# Altium schematic symbol library licheepi_nano_pcb.SchLib: 29 symbols
Pins are listed as number, name and electrical type; pins without a type are passive.

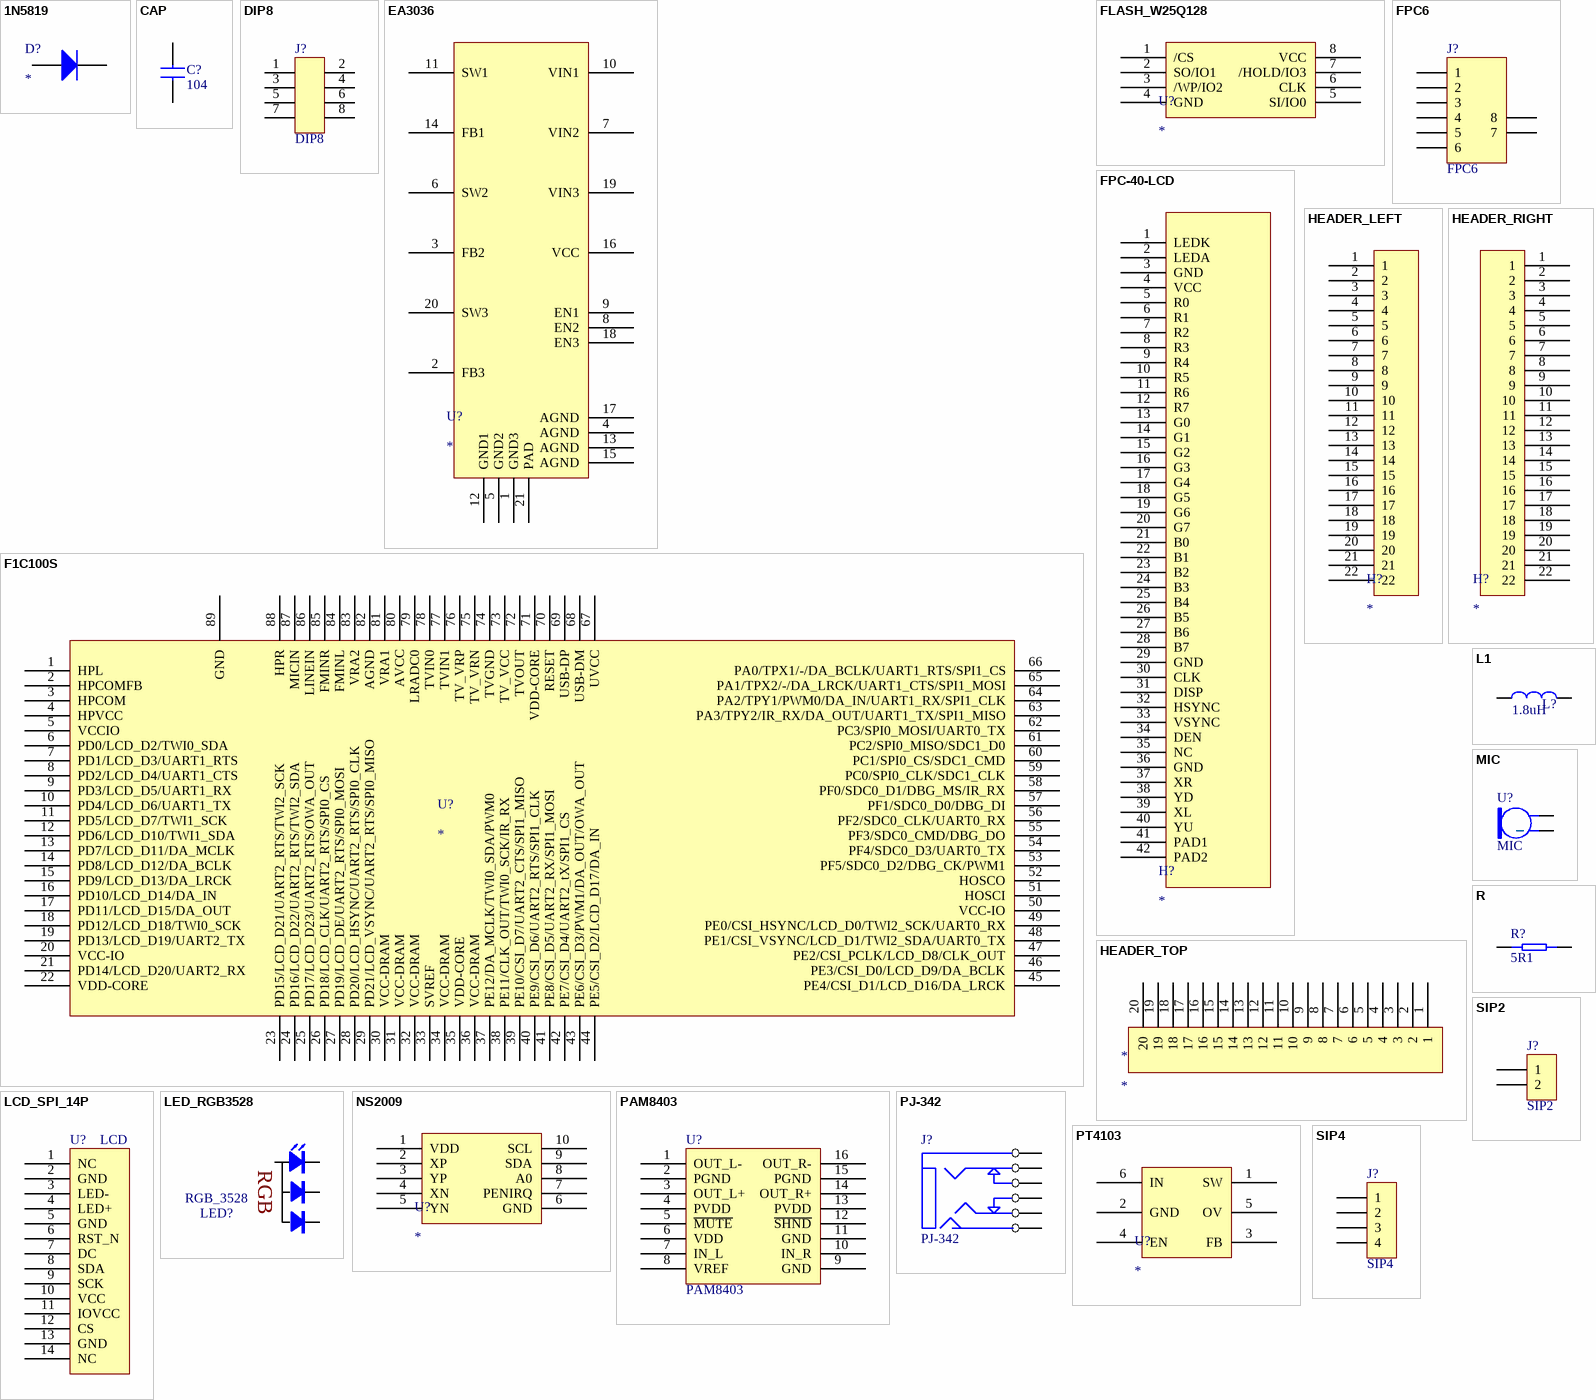
[diagram p0: symbols 1N5819 to SIP4]

## 1N5819
designator D?
footprint SOD123
pins: 1 A, 2 K

## CAP
designator C?, comment 104
SMD-CAP
footprint 0603C
footprint 0805C
footprint 1206C
footprint C_CCB
footprint 0402C
pins: 1, 2

## DIP8
designator J?
Connectors; Set Position: 0.5; Published: 8-Jun-2000; LatestRevisionDate: 17-Jul-2002; LatestRevisionNote: Re-released for DXP Platform.; PackageReference: AXIAL-0.6; Publisher: Altium Limited
footprint DIP8-2.54 (Footprint not found)
footprint NRF24L01
footprint DIP8-2.54_SMT
pins: 1, 2, 3, 4, 5, 6, 7, 8

## EA3036
designator U?
footprint QFN20-3x3 (QFN, 20-Leads, Body 3.00x3.00mm, Pitch 0.40mm)
pins: 1 GND3, 2 FB3, 3 FB2, 4 AGND, 5 GND2, 6 SW2, 7 VIN2, 8 EN2, 9 EN1, 10 VIN1, 11 SW1, 12 GND1, 13 AGND, 14 FB1, 15 AGND, 16 VCC, 17 AGND, 18 EN3, 19 VIN3, 20 SW3, 21 PAD

## F1C100S
designator U?
footprint QFN88-0.4
pins: 1 HPL, 2 HPCOMFB, 3 HPCOM, 4 HPVCC, 5 VCCIO, 6 PD0/LCD_D2/TWI0_SDA, 7 PD1/LCD_D3/UART1_RTS, 8 PD2/LCD_D4/UART1_CTS, 9 PD3/LCD_D5/UART1_RX, 10 PD4/LCD_D6/UART1_TX, 11 PD5/LCD_D7/TWI1_SCK, 12 PD6/LCD_D10/TWI1_SDA, 13 PD7/LCD_D11/DA_MCLK, 14 PD8/LCD_D12/DA_BCLK, 15 PD9/LCD_D13/DA_LRCK, 16 PD10/LCD_D14/DA_IN, 17 PD11/LCD_D15/DA_OUT, 18 PD12/LCD_D18/TWI0_SCK, 19 PD13/LCD_D19/UART2_TX, 20 VCC-IO, 21 PD14/LCD_D20/UART2_RX, 22 VDD-CORE, 23 PD15/LCD_D21/UART2_RTS/TWI2_SCK, 24 PD16/LCD_D22/UART2_RTS/TWI2_SDA, 25 PD17/LCD_D23/UART2_RTS/OWA_OUT, 26 PD18/LCD_CLK/UART2_RTS/SPI0_CS, 27 PD19/LCD_DE/UART2_RTS/SPI0_MOSI, 28 PD20/LCD_HSYNC/UART2_RTS/SPI0_CLK, 29 PD21/LCD_VSYNC/UART2_RTS/SPI0_MISO, 30 VCC-DRAM, 31 VCC-DRAM, 32 VCC-DRAM, 33 SVREF, 34 VCC-DRAM, 35 VDD-CORE, 36 VCC-DRAM, 37 PE12/DA_MCLK/TWI0_SDA/PWM0, 38 PE11/CLK_OUT/TWI0_SCK/IR_RX, 39 PE10/CSI_D7/UART2_CTS/SPI1_MISO, 40 PE9/CSI_D6/UART2_RTS/SPI1_CLK, 41 PE8/CSI_D5/UART2_RX/SPI1_MOSI, 42 PE7/CSI_D4/UART2_tX/SPI1_CS, 43 PE6/CSI_D3/PWM1/DA_OUT/OWA_OUT, 44 PE5/CSI_D2/LCD_D17/DA_IN, 45 PE4/CSI_D1/LCD_D16/DA_LRCK, 46 PE3/CSI_D0/LCD_D9/DA_BCLK, 47 PE2/CSI_PCLK/LCD_D8/CLK_OUT, 48 PE1/CSI_VSYNC/LCD_D1/TWI2_SDA/UART0_TX, 49 PE0/CSI_HSYNC/LCD_D0/TWI2_SCK/UART0_RX, 50 VCC-IO, 51 HOSCI, 52 HOSCO, 53 PF5/SDC0_D2/DBG_CK/PWM1, 54 PF4/SDC0_D3/UART0_TX, 55 PF3/SDC0_CMD/DBG_DO, 56 PF2/SDC0_CLK/UART0_RX, 57 PF1/SDC0_D0/DBG_DI, 58 PF0/SDC0_D1/DBG_MS/IR_RX, 59 PC0/SPI0_CLK/SDC1_CLK, 60 PC1/SPI0_CS/SDC1_CMD, 61 PC2/SPI0_MISO/SDC1_D0, 62 PC3/SPI0_MOSI/UART0_TX, 63 PA3/TPY2/IR_RX/DA_OUT/UART1_TX/SPI1_MISO, 64 PA2/TPY1/PWM0/DA_IN/UART1_RX/SPI1_CLK, 65 PA1/TPX2/-/DA_LRCK/UART1_CTS/SPI1_MOSI, 66 PA0/TPX1/-/DA_BCLK/UART1_RTS/SPI1_CS, 67 UVCC, 68 USB-DM, 69 USB-DP, 70 RESET, 71 VDD-CORE, 72 TVOUT, 73 TV_VCC, 74 TVGND, 75 TV_VRN, 76 TV_VRP, 77 TVIN1, 78 TVIN0, 79 LRADC0, 80 AVCC, 81 VRA1, 82 AGND, 83 VRA2, 84 FMINL, 85 FMINR, 86 LINEIN, 87 MICIN, 88 HPR, 89 GND

## FLASH_W25Q128
designator U?
footprint SO-8M
pins: 1 /CS, 2 SO/IO1, 3 /WP/IO2, 4 GND, 5 SI/IO0, 6 CLK, 7 /HOLD/IO3, 8 VCC

## FPC6
designator J?
footprint FPC-6P-0.5
pins: 1, 2, 3, 4, 5, 6, 7, 8

## FPC-40-LCD
designator H?
footprint FPC-40P-0.5
pins: 1 LEDK, 2 LEDA, 3 GND, 4 VCC, 5 R0, 6 R1, 7 R2, 8 R3, 9 R4, 10 R5, 11 R6, 12 R7, 13 G0, 14 G1, 15 G2, 16 G3, 17 G4, 18 G5, 19 G6, 20 G7, 21 B0, 22 B1, 23 B2, 24 B3, 25 B4, 26 B5, 27 B6, 28 B7, 29 GND, 30 CLK, 31 DISP, 32 HSYNC, 33 VSYNC, 34 DEN, 35 NC, 36 GND, 37 XR, 38 YD, 39 XL, 40 YU, 41 PAD1, 42 PAD2

## HEADER_LEFT
designator H?
footprint SIP22_10_1.27-mir
pins: 1, 2, 3, 4, 5, 6, 7, 8, 9, 10, 11, 12, 13, 14, 15, 16, 17, 18, 19, 20, 21, 22

## HEADER_RIGHT
designator H?
footprint SIP22_10_1.27
pins: 1, 2, 3, 4, 5, 6, 7, 8, 9, 10, 11, 12, 13, 14, 15, 16, 17, 18, 19, 20, 21, 22

## HEADER_TOP
designator *
footprint SIP20_1.27_half
pins: 1, 2, 3, 4, 5, 6, 7, 8, 9, 10, 11, 12, 13, 14, 15, 16, 17, 18, 19, 20

## L1
designator L?, comment 1.8uH
电感
footprint SLF10145
footprint SLF12565
footprint CD32
footprint CD43
footprint NR3015
footprint 0805R
footprint 0603R
pins: 1, 2

## LCD_SPI_14P
designator U?, comment LCD
footprint LCD_SPI_14P
footprint LCD_SPI_14P_top
footprint LCD_SPI_14P_sim
footprint LCD_SPI_14P_top_1.8
pins: 1 NC, 2 GND, 3 LED-, 4 LED+, 5 GND, 6 RST_N, 7 DC, 8 SDA, 9 SCK, 10 VCC, 11 IOVCC, 12 CS, 13 GND, 14 NC

## LED_RGB3528
designator LED?, comment RGB_3528
footprint LED_RGB3528
pins: 1 R, 2 COM+, 3 G, 4 B
text: RGB

## MIC
designator U?
footprint SIP2-2.54
footprint MIC_6050
footprint MIC_6027
pins: 1, 2

## NS2009
designator U?
footprint MSOP10 (TSSOP, 10-Leads, Body 3.00x3.00mm, Pitch 0.50mm, IPC Medium Density)
pins: 1 VDD, 2 XP, 3 YP, 4 XN, 5 YN, 6 GND, 7 PENIRQ, 8 A0, 9 SDA, 10 SCL

## PAM8403
designator U?
footprint SO-16N
pins: 1 OUT_L-, 2 PGND, 3 OUT_L+, 4 PVDD, 5 ~{MUTE}, 6 VDD, 7 IN_L, 8 VREF, 9 GND, 10 IN_R, 11 GND, 12 ~{SHND}, 13 PVDD, 14 OUT_R+, 15 PGND, 16 OUT_R-

## PJ-342
designator J?
footprint PJ-342
pins: 2 MIC, 3 GND, 4 R, 5 R_DET, 6 L, 7 L_DET

## PT4103
designator U?
footprint sot23_6
pins: 1 SW, 2 GND, 3 FB, 4 EN, 5 OV, 6 IN

## R
designator R?, comment 5R1
footprint 0805R
footprint R-AXIAL0.3
footprint R-AXIAL0.4
footprint 0402R
pins: 1, 2

## SIP2
designator J?
jointbar
footprint SIP2-2.0
footprint SIP2-2.54
pins: 1, 2

## SIP4
designator J?
jointbar
footprint SIP4-2.0
footprint SIP4-2.54
footprint SIP4-2.54-raw
pins: 1, 2, 3, 4

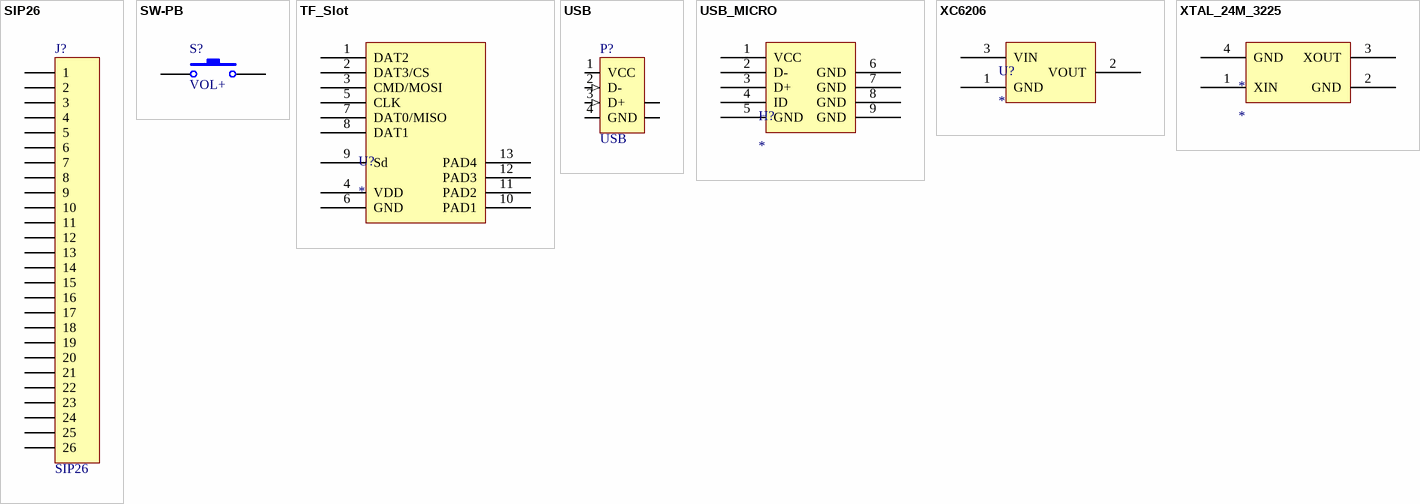
[diagram p1: symbols SIP26 to XTAL_24M_3225]

## SIP26
designator J?
footprint DIP26_2.54_SMT-DUAL
pins: 1, 2, 3, 4, 5, 6, 7, 8, 9, 10, 11, 12, 13, 14, 15, 16, 17, 18, 19, 20, 21, 22, 23, 24, 25, 26

## SW-PB
designator S?, comment VOL+
Switch; Published: 24-Mar-1999; LatestRevisionDate: 17-Jul-2002; LatestRevisionNote: Re-released for DXP Platform.; PackageReference: SPST-2; Publisher: Altium Limited
footprint SPST-2 (Switch; 2 Leads)
footprint key2_3*4
footprint KEY_6X6X5
footprint key4_3x4
pins: 1, 2

## TF_Slot
designator U?
footprint TF_self-eject
pins: 1 DAT2, 2 DAT3/CS, 3 CMD/MOSI, 4 VDD, 5 CLK, 6 GND, 7 DAT0/MISO, 8 DAT1, 9 Sd, 10 PAD1, 11 PAD2, 12 PAD3, 13 PAD4

## USB
designator P?
USB 1.1, Right Angle, SMT, A Type, Plug, 4 Position, Natural; ContactMaterial: Brass; ContactPlating: Gold (30) over Nickel (50); PCB_Layout: Complies with manufacturer's recommendation.; DrillSize: Corresponds to nominal value.; PanelGround: Without; Published: 15-Jul-2004; DatasheetDocument: 21-Jan-2003; PackageDocument: 21-Jan-2003; PackageReference: 1470695A; Publisher: Altium Limited; HousingMaterial: Thermoplastic; ComponentLink1Description: Manufacturer Link; ComponentLink1URL: http://www.tycoelectronics.com/; ComponentLink2Description: Packaging Specification; ComponentLink2URL: http://ecommas.tycoelectronics.com/commerce/DocumentDelivery/DDEController?Action=showdoc&DocId=Customer+Drawing%7F1470695%7FO%7Fpdf%7FEnglish%7FC_1470695_O.pdf
footprint USB01 (Connector; USB1.1, Type A, SM; 4 Position; Right Angle)
signal-integrity model USB1.1
footprint USBB
pins: 1 VCC (power) "Power", 2 D- (in) "-DATA", 3 D+ (in) "+DATA", 4 GND (power) "Ground", 5 SHLD "Shield", 6 SHLD "Shield"

## USB_MICRO
designator H?
footprint USB_MICRO_insert
pins: 1 VCC, 2 D-, 3 D+, 4 ID, 5 GND, 6 GND, 7 GND, 8 GND, 9 GND

## XC6206
designator U?
footprint SOT-23
pins: 1 GND, 2 VOUT, 3 VIN

## XTAL_24M_3225
designator *
footprint SMD_3225
pins: 1 XIN, 2 GND, 3 XOUT, 4 GND